# Altium footprint library SOD2713X115N.PcbLib: 1 footprints
Each footprint in its own frame and in the unit in brackets; x right, y up, seen from the top. Pads: shape width x height; smd on the part's side, far side on the other; paste and mask are expansions set on the pad; w line width, h text height; cw(c..) or ccw(c..) is an arc to the next point about the centre after c.
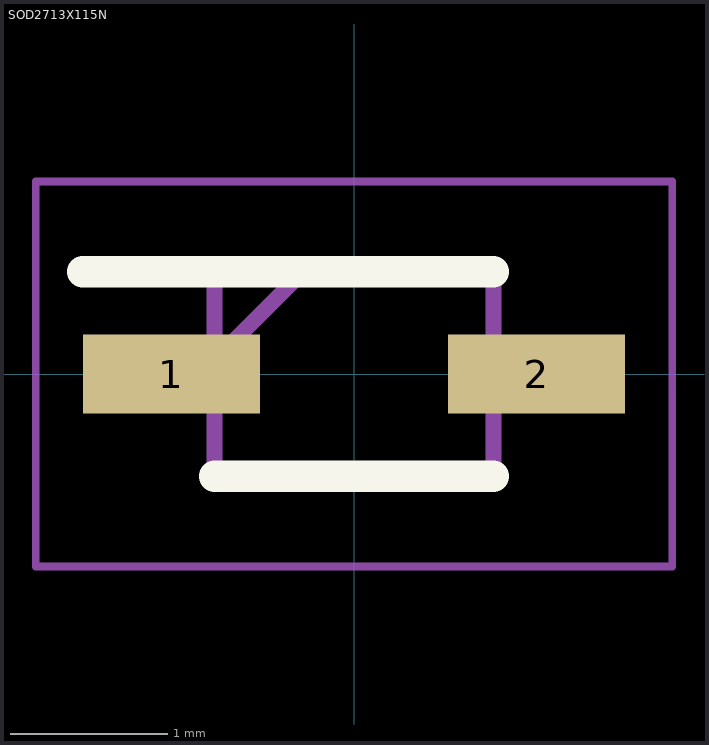
[diagram p0: the footprint, top view; thin cyan lines are the x and y axes]

## SOD2713X115N [mm]
pads (2):
  rect 1.125x0.5 smd: 1(-1.162,0) 2(1.162,0)
Top Overlay:
  lines w0.2: -1.725,0.65 0.888,0.65 ; -0.888,-0.65 0.888,-0.65
Mechanical 15:
  lines w0.1: -0.888,0.088 -0.325,0.65 ; -0.888,-0.65 0.888,-0.65 0.888,0.65 -0.888,0.65 -0.888,-0.65
Mechanical 20:
  lines w0.05: -2.025,-1.225 2.025,-1.225 2.025,1.225 -2.025,1.225 -2.025,-1.225